# Altium schematic symbol library Miscellaneous.SchLib: 26 symbols
Pins are listed as number, name and electrical type; pins without a type are passive.

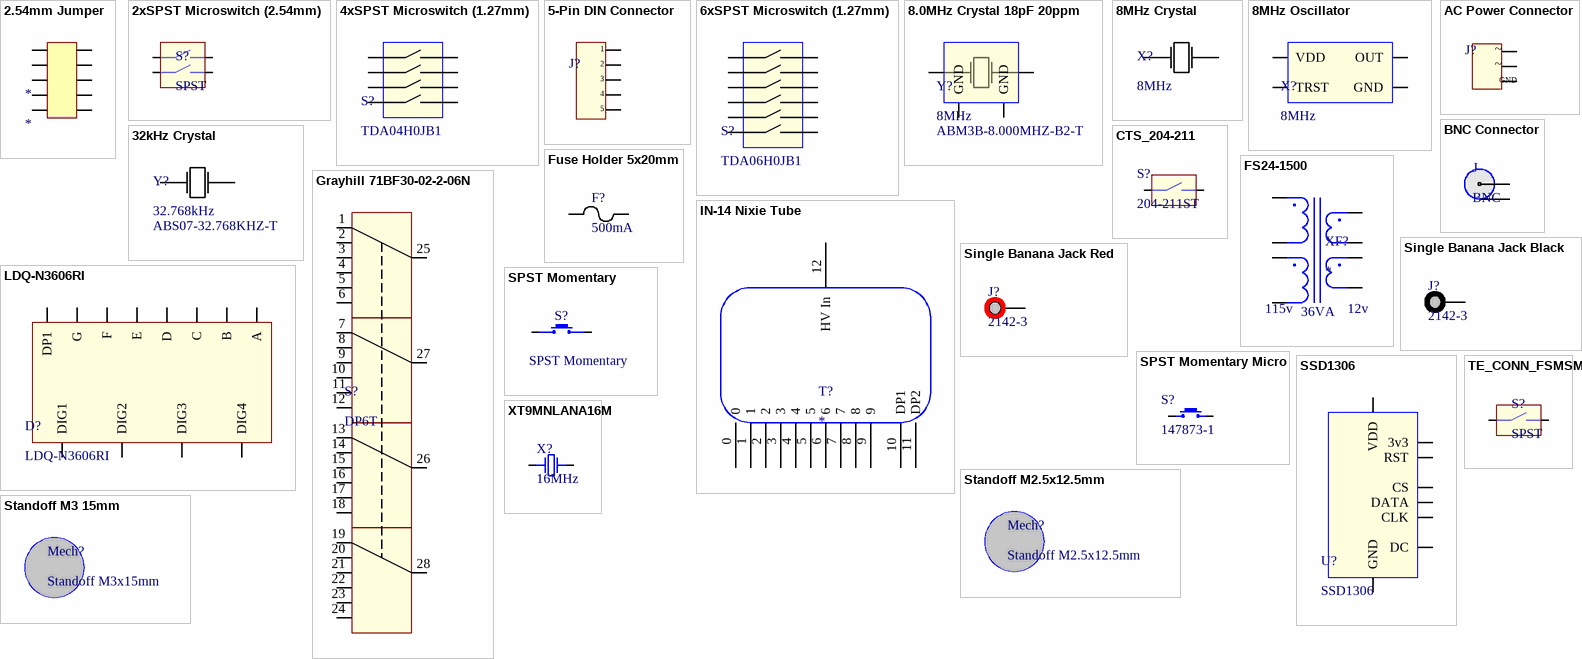
[diagram p0: symbols 2.54mm Jumper to XT9MNLANA16M]

## 2.54mm Jumper
designator *
MFG_PN: 961210-6404-AR; MFG: 3M; ROWS: 2; POSITION: 10
footprint 2.54mm Jumper 2x5 pin
pins: 1, 2, 3, 4, 5, 6, 7, 8, 9, 10

## 2xSPST Microswitch (2.54mm)
designator S?, comment SPST
SPST Microswitch Array (2 Switches); MFG: CTS; MFG_PN: 219-2MST; TYPE: SPST
footprint CTS_219-2MST (2 Pos Microswitch)
pins: 1 (power), 2 (power), 3 (power), 4 (power)

## 4xSPST Microswitch (1.27mm)
designator S?, comment TDA04H0JB1
SPST Microswitch Array (4 Position); LOAD: NL; MFG: C&K; MFG_PN: TDA04H0JB1
footprint TDA04H0JB1 4xSPST (1.27mm pitch Microswitch Array)
pins: 1, 2, 3, 4, 5, 6, 7, 8

## 5-Pin DIN Connector
designator J?, comment 5-Pin DIN  (value not drawn)
MFG: Kobiconn; MFG_PN: 161-0504-E
footprint 5-Pin DIN
pins: 1, 2, 3, 4, 5

## 6xSPST Microswitch (1.27mm)
designator S?, comment TDA06H0JB1
SPST Microswitch Array (6 Position); LOAD: NL; MFG: C&K; MFG_PN: TDA06H0JB1
footprint TDA06H0JB1 6xSPST (1.27mm pitch Microswitch Array)
pins: 1, 2, 3, 4, 5, 6, 7, 8, 9, 10, 11, 12

## 8.0MHz Crystal 18pF 20ppm
designator Y?, comment 8MHz  MFG_PN: ABM3B-8.000MHZ-B2-T
8.0MHz Crystal; MFG: ABRACON; CLOAD: 18pF; FREQ: 8MHz
footprint ABMM2-8.000MHZ-B2-T
pins: 1 GND, 2, 3 GND, 4

## 8MHz Crystal
designator X?, comment 8MHz
8MHz Crystal; MFG_PN: ABMM2-8.000MHZ-E2-T; MFG: ABRACON; CLOAD: 18pF; FREQ: 8MHz
footprint ABMM2-8.000MHZ-E2-T
pins: 1, 2 hidden, 3, 4 hidden

## 8MHz Oscillator
designator X?, comment 8MHz
8MHz Crystal Oscillator; MFG: ABRACON; MFG_PN: ASCO-8.000MHZ-EK-T3; FREQ: 8MHz
footprint ASCO-EK-T3
pins: 1 TRST, 2 VDD, 3 GND, 4 OUT

## 32kHz Crystal
designator Y?, comment 32.768kHz  MFG_PN: ABS07-32.768KHZ-T
32kHz Crystal; MFG: ABRACON; CLOAD: 12.5pF; FREQ: 32.768kHz
footprint ABS07-32.768KHZ-T (32kHz Crystal)
pins: 1, 2

## AC Power Connector
designator J?, comment 703W-00/54  (value not drawn)
MFG: QUALTEK; AC_CURRENT: 15A; MFG_PN: 703W-00/54
footprint AC_POWER_PLUG
pins: 1 HOT, 2 NEUTRAL, 3 SAFETY_GND
text: ~; GND

## BNC Connector
designator J, comment BNC
MFG: VITELEC; MFG_PN: VBI211
footprint BNC Connector
pins: 1, 2

## CTS_204-211
designator S?, comment 204-211ST
DPST Micro Dip Switch; MFG: CTS; MFG_PN: 204-211ST
footprint CTS204-211ST (SPST DIP Switch)
pins: 1 (power), 2 (power)

## FS24-1500
designator XF?  PRI_VOLTAGE: 115v  SEC_VOLTAGE: 12v  POWER: 36VA
115:115 - 12:12 Transformer; MFG: Triad Magnetics; MFG_PN: FS24-1500
footprint FS24-1500 (115:115 - 24:24 xfrmr)
pins: 1 (power), 2 (power), 3 (power), 4 (power), 5 (power), 6 (power), 7 (power), 8 (power)

## Fuse Holder 5x20mm
designator F?, comment 500mA
5x20mm Fuse and Holder; MFG: Eaton; MFG_PN: BK/GMC-500-R; AC_VOLTAGE: 250v; MFG2_PN: 31.8201; TRIP_CURRENT: 500mA; MFG2: Schurter
footprint FuseHolder_5x20mm
pins: 1, 2

## Grayhill 71BF30-02-2-06N
designator S?, comment DP6T
2-Deck, DP6T Switch; MFG: GRAYHILL; MFG_PN: 71BF30-02-2-06N; TYPE: DP6T
footprint GRAYHILL 71BF30-02-2-06N (Two deck, DP6T Rotary Switch)
pins: 1, 2, 3, 4, 5, 6, 7, 8, 9, 10, 11, 12, 13, 14, 15, 16, 17, 18, 19, 20, 21, 22, 23, 24, 25, 26, 27, 28

## IN-14 Nixie Tube
designator T?
footprint IN-14 Nixie Tube
pins: 0, 1, 2, 3, 4, 5, 6, 7, 8, 9, 10 DP1, 11 DP2, 12 HV In

## LDQ-N3606RI
designator D?
4-Digit 7-Segment Display; MFG: LUMEX; MFG_PN: LDQ-N3606RI
footprint LDQ-N3606RI (4 Digit - 7 Segment Display)
pins: 1 E, 2 D, 3 DP1, 4 C, 5 G, 6 DIG4, 7 B, 8 DIG3, 9 DIG2, 10 F, 11 A, 12 DIG1

## Single Banana Jack Black
designator J?, comment 2142-3
Single Banana Jack; MFG: POMONA; CURRENT: 5A; MFG_PN: 2142-3
footprint POMONA_2142 (Single)
pins: 1

## Single Banana Jack Red
designator J?, comment 2142-3
Dual Banana Jack Red; MFG: POMONA; CURRENT: 5A; MFG_PN: 2142-3
footprint POMONA_2142 (Single)
pins: 1

## SPST Momentary
designator S?
SPST Momentary Switch; MFG: TE Connectivity; MFG_PN: 1571563-1; TYPE: SPST Momentary
footprint TECONN_1571563 (SPST_Momentary)
pins: 1, 2, 3, 4

## SPST Momentary Micro
designator S?, comment 147873-1
Micro SPST Momentary Switch; MFG: TE CONNECTIVITY; LOAD: NL; CURRENT: 50mA; VOLTAGE: 24v; MFG_PN: 147873-1
footprint TECONN_14783-1
pins: 1, 2

## SSD1306
designator U?
OLED Display; MFG: ADAFRUIT; MFG_PN: SSD1306
footprint SSD1306
pins: 1 DATA, 2 CLK, 3 DC, 4 RST, 5 CS, 6 3v3, 7 VDD, 8 GND

## Standoff M2.5x12.5mm
designator Mech?
MFG: KEYSTONE; MFG_PN: 24284
footprint Standoff M2.5x12mm
pins: 1 hidden

## Standoff M3 15mm
designator Mech?, comment Standoff M3x15mm
MFG: KEYSTONE; MFG_PN: 25503
footprint Standoff M3 15mm
pins: 1 hidden

## TE_CONN_FSMSM
designator S?, comment SPST
SPST Microswitch; MFG: TE_CONN; MFG_PN: FSMSM; CURRENT: 50mA; VOLTAGE_DC: 24v; TYPE: SPST
footprint SW_TECONN_FSMSM (Single SMD SPST Switch)
pins: 1, 2

## XT9MNLANA16M
designator X?, comment 16MHz
16MHz Crystal; MFG: Vishay; MFG_PN: XT9MNLANA16M; FREQ: 16MHz
footprint HC-49/US (Crystal)
pins: 1 (power), 2 (power)